# EAGLE library part L4972A (library ST_Microelctronics_By_element14_Batch_1)
SWITCHING REGULATOR
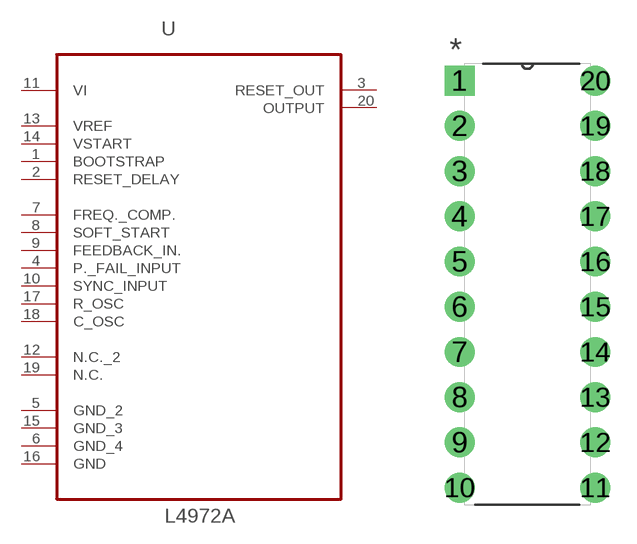
[diagram p37: symbol with the pads of DIP254P762X510-20; footprint DIP254P762X510-20]

Designator prefix U

## L4972A (MPN: L4972A; OC_FARNELL: 1094219; OC_NEWARK: 89K1326; PACKAGE: DIP-20; SUPPLIER: STMICROELECTRONICS)  [DIP254P762X510-20]
1  BOOTSTRAP  in
2  RESET_DELAY  in
3  RESET_OUT  out
4  P._FAIL_INPUT  in
5  GND_2  pas
6  GND_4  pas
7  FREQ._COMP.  in
8  SOFT_START  in
9  FEEDBACK_IN.  in
10  SYNC_INPUT  in
11  VI  pwr
12  N.C._2  nc
13  VREF  in
14  VSTART  pas
15  GND_3  pas
16  GND  pas
17  R_OSC  pas
18  C_OSC  pas
19  N.C.  nc
20  OUTPUT  out

## Footprint DIP254P762X510-20 (pad centres in mm)
drill 1.118 square: 1 -7.62,22.86
drill 1.118: 2 -7.62,20.32; 3 -7.62,17.78; 4 -7.62,15.24; 5 -7.62,12.7; 6 -7.62,10.16; 7 -7.62,7.62; 8 -7.62,5.08; 9 -7.62,2.54; 10 -7.62,0; 11 0,0; 12 0,2.54; 13 0,5.08; 14 0,7.62; 15 0,10.16; 16 0,12.7; 17 0,15.24; 18 0,17.78; 19 0,20.32; 20 0,22.86